# EAGLE library part QUAD-2IN-AND (library TM by Logic Circuit)
Quad 2-input AND gate
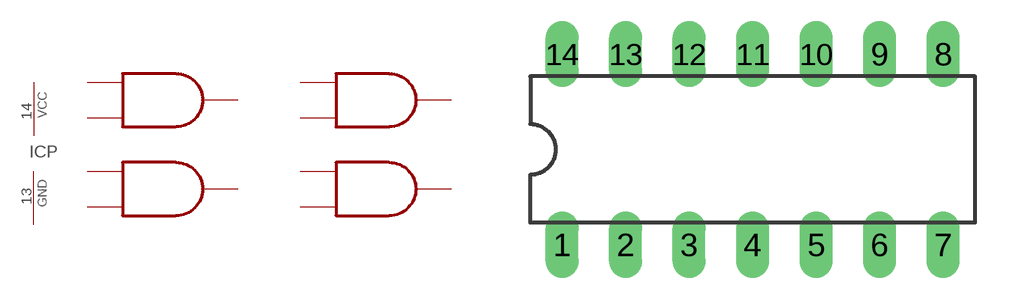
[diagram p1: symbol with the pads of DIL14; footprint DIL14]

Designator prefix IC; gates A=2IN-AND B=2IN-AND C=2IN-AND D=2IN-AND P=PWRN

## QUAD-2IN-AND  [DIL14]
1  A:I0  in
2  A:I1  nc
3  A:O  out
4  B:I0  in
5  B:I1  nc
6  B:O  out
7  C:I0  in
8  C:I1  nc
9  C:O  out
10  D:I0  in
11  D:I1  nc
12  D:O  out
13  P:GND  pwr
14  P:VCC  pwr

## Footprint DIL14 (pad centres in mm)
Dual In Line Package
drill 0.813 long: 1 -7.62,-3.81; 2 -5.08,-3.81; 3 -2.54,-3.81; 4 0,-3.81; 5 2.54,-3.81; 6 5.08,-3.81; 7 7.62,-3.81; 8 7.62,3.81; 9 5.08,3.81; 10 2.54,3.81; 11 0,3.81; 12 -2.54,3.81; 13 -5.08,3.81; 14 -7.62,3.81